# EAGLE library part WE-RJ45_7499410440 (library Wurth_Signal & Communications_WE-RJ45_LAN)
WE-RJ45 LAN Transformer Characteristics RJ45 Connector with integrated transformer / common mode choke Power over Ethernet up to 50 Watt and speeds up to 10 Gbit/s Available in SMD, THT and THT with USB Compliant with standards: IEEE 802.3u, IEEE 802.3ab, IEEE 802.3af, IEEE 802.3at, IEEE 802.3an and upcoming IEE 802.3bt Applications Suitable for industrial temperatures from –40 °C up to +85 °C Compatible to Industrial Ethernet systems like EtherCAT or Profinet Compliant with most IC’s for Ethernet applications such as Microchip, Texas Instruments, Broadcom, Linear Technology Hubs, Routers, Switches, IP cameras, IoT applications <https://www.we-online.com/components/media/o35731v209%20Family-WE-RJ45LAN-7499xxxxxx.jpg> Details see: www.we-online.com/components/products/WE-LAN-RJ45 <www.we-online.com/catalog/WE-LAN-RJ45/?utm_source=eagle_model&utm_medium=description_link&utm_campaign=eisos_eagle> Updated by Ella Wu 2021-07-09 2021 (C) Wurth Elektronik
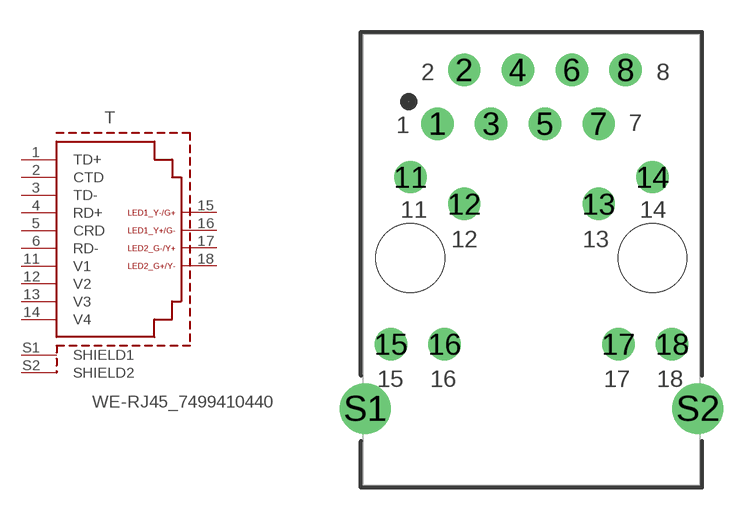
[diagram p93: symbol with the pads of 7499410440; footprint 7499410440]

Designator prefix T

## WE-RJ45_7499410440 (DATA-RATE: 10/100 Base-T; DATASHEET-URL: https://www.we-online.com/redexpert/spec/7499410440?ae; LED: yellow/green-yellow/green; MOUNT: THT; PART-NUMBER: 7499410440; POE: PoE+ (up to 720 mA); PORTS: 1; USB: No; VALUE: 7499410440)  [7499410440]
1  TD+  pas
2  CTD  pas
3  TD-  pas
4  RD+  pas
5  CRD  pas
6  RD-  pas
11  V1  pas
12  V2  pas
13  V3  pas
14  V4  pas
15  LED1_Y-/G+  pas
16  LED1_Y+/G-  pas
17  LED2_G-/Y+  pas
18  LED2_G+/Y-  pas
S1  SHIELD1  pas
S2  SHIELD2  pas

## Footprint 7499410440 (pad centres in mm)
WE-RJ45 LAN Transformer 10/100 Base-T
drill 1.02: 1 -4.445,6.35; 2 -3.175,8.89; 3 -1.905,6.35; 4 -0.635,8.89; 5 0.635,6.35; 6 1.905,8.89; 7 3.175,6.35; 8 4.445,8.89; 11 -5.715,3.83; 12 -3.175,2.56; 13 3.175,2.56; 14 5.715,3.83; 15 -6.64,-4.06; 16 -4.1,-4.06; 17 4.1,-4.06; 18 6.64,-4.06
drill 1.6: S1 -7.85,-7.11; S2 7.85,-7.11
hole 3.25 at -5.715,0
hole 3.25 at 5.715,0